# Altium schematic symbol library IND,1.8nH,900mA,Multilayer,0402.Schlib: 1 symbol
Pins are listed as number, name and electrical type; pins without a type are passive.

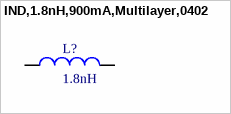
[diagram p0: symbol IND,1.8nH,900mA,Multilayer,0402]

## IND,1.8nH,900mA,Multilayer,0402
designator L?, comment 1.8nH
1.8 nH Unshielded Multilayer Inductor 900 mA 100mOhm Max 0402 (1005 Metric)
pins: 1, 2